# EAGLE library part MIQA-100M (library minicircuits1)
I/Q modulator 95 to 105 MHz RF out: 95 to 105 MHz I&Q in: DC to 5 MHz 50R Q=I+90 Features: hermetically sealed metal case excellent 3rd and 5 th order harmonic good carrier and sideband rejections Applications: radar communication system military, hi-rel application
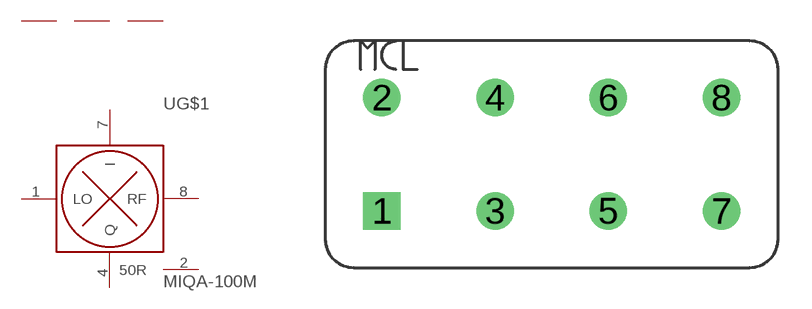
[diagram p47: symbol with the pads of A06; footprint A06]

Designator prefix -; gates G$1=IQ_MODULATOR G$3=GND G$4=GND G$5=GND G$2=50R_PIN

## MIQA-100M  [A06]
1  G$1:LO  in
2  G$2:50R  in
3  G$3:GND  pwr
4  G$1:Q  in
5  G$4:GND  pwr
6  G$5:GND  pwr
7  G$1:I  in
8  G$1:RF  out

## Footprint A06 (pad centres in mm)
drill 0.813 pad 1.676 square: 1 2.54,2.54
drill 0.813 pad 1.676: 2 2.54,7.62; 3 7.62,2.54; 4 7.62,7.62; 5 12.7,2.54; 6 12.7,7.62; 7 17.78,2.54; 8 17.78,7.62